# Altium footprint library LED_Laser Mount_1.PcbLib: 1 footprints
Each footprint in its own frame and in the unit in brackets; x right, y up, seen from the top. Pads: shape width x height; smd on the part's side, far side on the other; paste and mask are expansions set on the pad; w line width, h text height; cw(c..) or ccw(c..) is an arc to the next point about the centre after c.
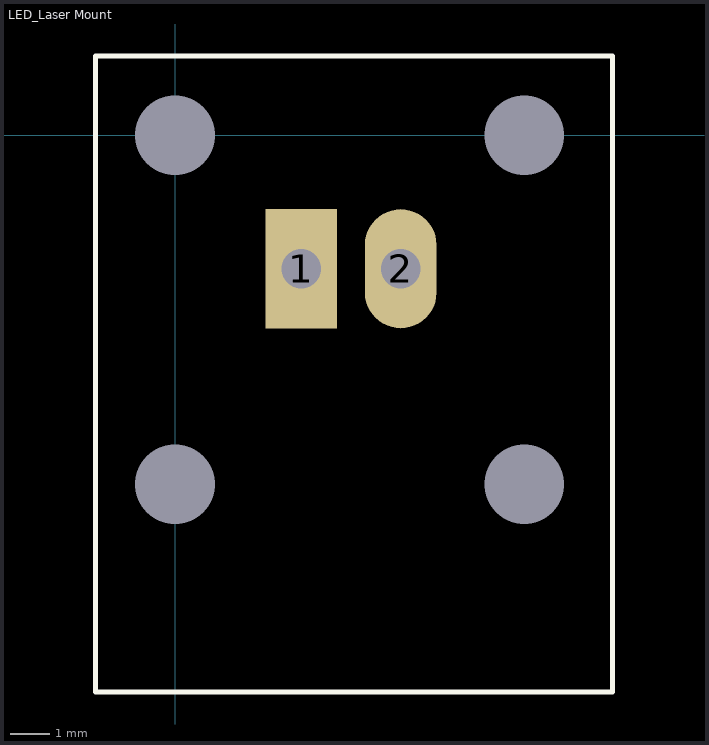
[diagram p0: the footprint, top view; thin cyan lines are the x and y axes]

## LED_Laser Mount [mm]
pads (6):
  rect 1.8x3 hole 1: 1(3.175,-3.353)
  oval 1.8x3 hole 1: 2(5.675,-3.353)
  round 0 hole 2: ""(0,-8.775) ""(8.775,-8.775) ""(8.775,0)
  rect 0x0 hole 2: ""(0,0)
Top Overlay:
  lines w0.127: -2,-14 -2,2 11,2 11,-14 -2,-14